# Altium footprint library PCB - CONNECTOR - SAMTEC IPL1-120-01-XX-D.PcbLib: 1 footprints
Each footprint in its own frame and in the unit in brackets; x right, y up, seen from the top. Pads: shape width x height; smd on the part's side, far side on the other; paste and mask are expansions set on the pad; w line width, h text height; cw(c..) or ccw(c..) is an arc to the next point about the centre after c.
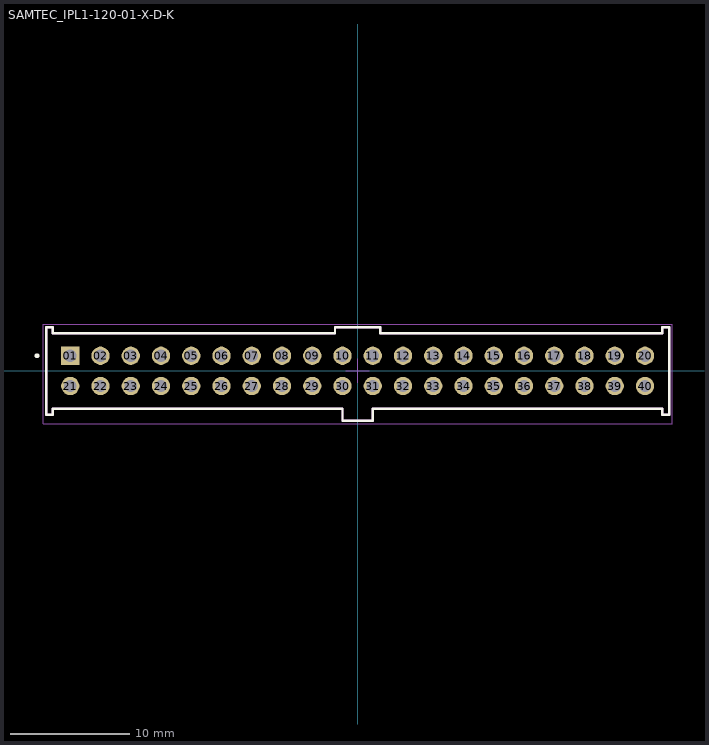
[diagram p0: the footprint, top view; thin cyan lines are the x and y axes]

## SAMTEC_IPL1-120-01-X-D-K [mm]
pads (40):
  rect 1.53x1.53 hole 1.02: 01(-24.13,1.27)
  round 1.53 hole 1.02: 02(-21.59,1.27) 03(-19.05,1.27) 04(-16.51,1.27) 05(-13.97,1.27) 06(-11.43,1.27) 07(-8.89,1.27) 08(-6.35,1.27) 09(-3.81,1.27) 10(-1.27,1.27) 11(1.27,1.27) 12(3.81,1.27) 13(6.35,1.27) 14(8.89,1.27) 15(11.43,1.27) 16(13.97,1.27) 17(16.51,1.27) 18(19.05,1.27) 19(21.59,1.27) 20(24.13,1.27) 21(-24.13,-1.27) 22(-21.59,-1.27) 23(-19.05,-1.27) 24(-16.51,-1.27) 25(-13.97,-1.27) 26(-11.43,-1.27) 27(-8.89,-1.27) 28(-6.35,-1.27) 29(-3.81,-1.27) 30(-1.27,-1.27) 31(1.27,-1.27) 32(3.81,-1.27) 33(6.35,-1.27) 34(8.89,-1.27) 35(11.43,-1.27) 36(13.97,-1.27) 37(16.51,-1.27) 38(19.05,-1.27) 39(21.59,-1.27) 40(24.13,-1.27)
Top Overlay:
  circle w0.2: c-26.924,1.27 r0.1
  lines w0.2: -26.16,-3.675 -26.16,3.675 -25.589,3.675 -25.589,3.175 -1.905,3.175 -1.905,3.675 1.905,3.675 1.905,3.175 25.589,3.175 25.589,3.675 26.16,3.675 26.16,-3.675 25.589,-3.675 25.589,-3.175 1.27,-3.175 1.27,-4.195 -1.27,-4.195 -1.27,-3.175 -25.589,-3.175 -25.589,-3.675 -26.16,-3.675
Top Assembly:
  lines w0.2: -26.16,-3.675 -26.16,3.675 -25.589,3.675 -25.589,3.175 -1.905,3.175 -1.905,3.675 1.905,3.675 1.905,3.175 25.589,3.175 25.589,3.675 26.16,3.675 26.16,-3.675 25.589,-3.675 25.589,-3.175 1.27,-3.175 1.27,-4.195 -1.27,-4.195 -1.27,-3.175 -25.589,-3.175 -25.589,-3.675 -26.16,-3.675
Top Courtyard:
  lines w0.05: -26.41,-4.445 26.41,-4.445 26.41,3.925 -26.41,3.925 -26.41,-4.445
Top Designator:
  text ".Designator" at -2.597,-0.486 h1
Top Component Center:
  lines w0.1: -1.008,0 0.992,0 ; -0.008,-1 -0.008,1
3D body "IPL1-120-01-L-D-K.stp": height 8.13, standoff -3.05, extent -26.162,-4.191 26.162,3.683